# EAGLE library part POT16_W_BRACKET (library joakim)
POTENTIOMETER potentiometer, 16 mm w 5mm pitch and OMEG bracket, 17,8 x 7,5 mm
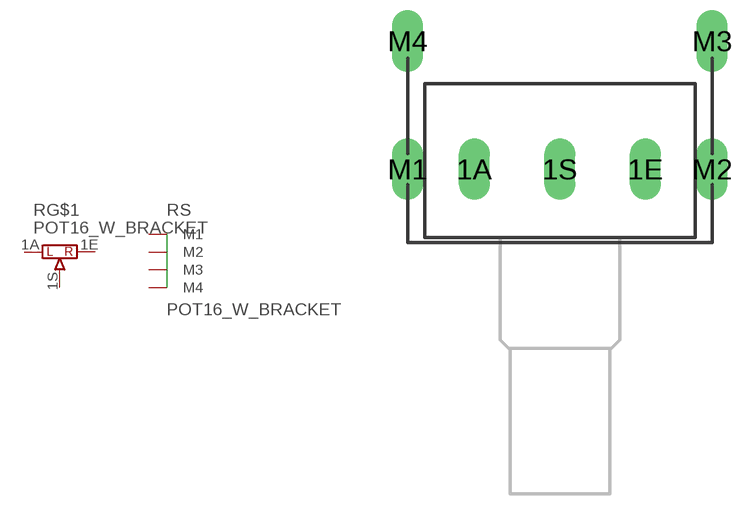
[diagram p19: symbol with the pads of POT16_W_BRACKET-J; footprint POT16_W_BRACKET-J]

Designator prefix R; gates G$1=POT-J S=POT16-BRACKET-J

## POT16_W_BRACKET""  [POT16_W_BRACKET-J]
1A  G$1:L  pas
1E  G$1:R  pas
1S  G$1:C  pas
M1  S:M1  pas
M2  S:M2  pas
M3  S:M3  pas
M4  S:M4  pas

## Footprint POT16_W_BRACKET-J (pad centres in mm)
POTENTIOMETER single carbon potentiometer, 16 mm
drill 1.2 long: 1A -5,0; 1E 5,0; 1S 0,0; M1 -8.9,0; M2 8.9,0; M3 8.9,7.5; M4 -8.9,7.5